# Altium schematic symbol library LM7809.SchLib: 1 symbol
Pins are listed as number, name and electrical type; pins without a type are passive.

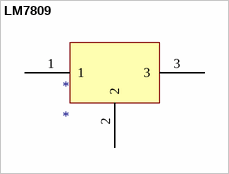
[diagram p0: symbol LM7809]

## LM7809
designator *
pins: 1, 2, 3